# Altium footprint library RESC3216X07N.PcbLib: 1 footprints
Each footprint in its own frame and in the unit in brackets; x right, y up, seen from the top. Pads: shape width x height; smd on the part's side, far side on the other; paste and mask are expansions set on the pad; w line width, h text height; cw(c..) or ccw(c..) is an arc to the next point about the centre after c.
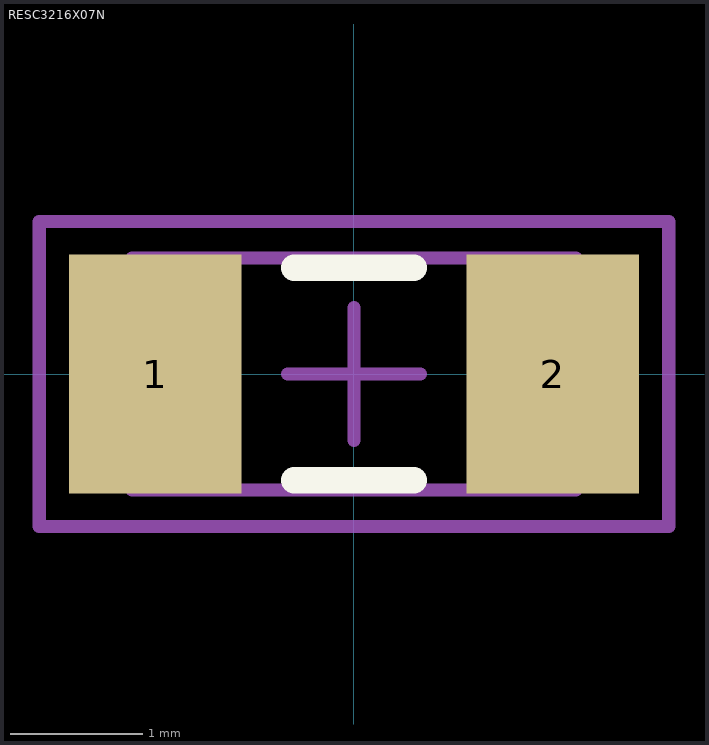
[diagram p0: the footprint, top view; thin cyan lines are the x and y axes]

## RESC3216X07N [mm] "Chip Resistor, 2-Leads, Body 3.2x1.6mm, IPC Medium Density"
height 0.71
pads (2):
  rect 1.3x1.8 smd: 1(-1.5,0) 2(1.5,0)
Top Overlay:
  lines w0.2: -0.45,-0.8 0.45,-0.8 ; -0.45,0.8 0.45,0.8
Mechanical 13:
  lines w0.1: -1.675,-0.875 -1.675,0.875 1.675,0.875 1.675,-0.875 -1.675,-0.875
Mechanical 15:
  lines w0.1: -0.5,0 0.5,0 ; 0,-0.5 0,0.5 ; -2.375,-1.15 -2.375,1.15 2.375,1.15 2.375,-1.15 -2.375,-1.15
3D body: height 0.71, standoff 0, extent -1.675,-0.875 1.675,0.875